# Altium footprint library Mechanicals.PcbLib: 10 footprints
Each footprint in its own frame and in the unit in brackets; x right, y up, seen from the top. Pads: shape width x height; smd on the part's side, far side on the other; paste and mask are expansions set on the pad; w line width, h text height; cw(c..) or ccw(c..) is an arc to the next point about the centre after c.
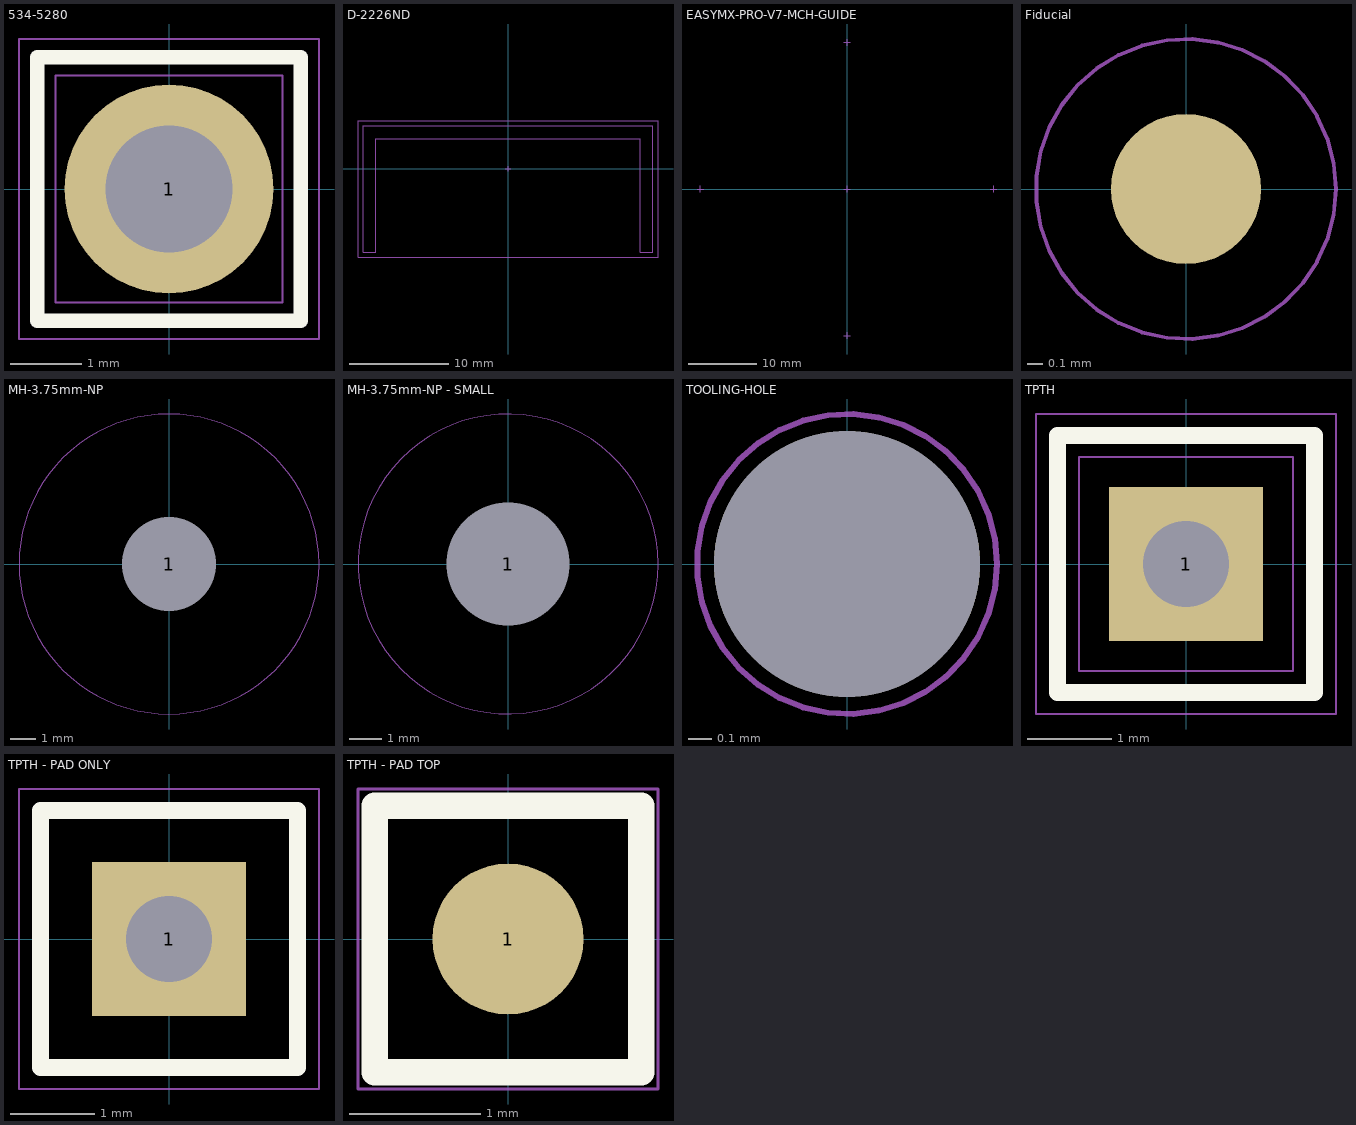
[diagram p0: the footprints below, top view; thin cyan lines are the x and y axes]

## 534-5280 [mil]
pads (1):
  round 115 hole 70: 1(0,0)
Top Overlay:
  lines w7.87: -72.5,-72.5 72.5,-72.5 72.5,72.5 -72.5,72.5 -72.5,-72.5
Top Courtyard (Mech4):
  lines w1: -82.5,-82.5 -82.5,82.5 82.5,82.5 82.5,-82.5 -82.5,-82.5
Top Assembly:
  lines w1: -5,0 5,0 ; 0,-5 0,5 ; -62.5,-62.5 62.5,-62.5 62.5,62.5 -62.5,62.5 -62.5,-62.5
3D body "keystone-PN5280.STEP": height 320.5, standoff -124.5, extent -62.5,-62.38 62.5,62.38

## D-2226ND [mm]
Top Courtyard (Mech4):
  lines w0.025: -15.113,-8.89 15.113,-8.89 15.113,4.826 -15.113,4.826 -15.113,-8.89
Top Assembly:
  lines w0.025: -0.254,0 0.254,0 ; 0,-0.254 0,0.254 ; -14.605,-8.382 -13.335,-8.382 -13.335,3.048 13.335,3.048 13.335,-8.382 14.605,-8.382 14.605,4.318 -14.605,4.318 -14.605,-8.382
3D body: height 27, standoff 0, extent -14.605,-8.382 14.605,4.318

## EASYMX-PRO-V7-MCH-GUIDE [mm]
Top Assembly:
  lines w0.025: -22.098,0 -21.082,0 ; -21.59,-0.508 -21.59,0.508 ; -0.508,-21.59 0.508,-21.59 ; -0.508,0 0.508,0 ; -0.508,21.59 0.508,21.59 ; 0,-22.098 0,-21.082 ; 0,-0.508 0,0.508 ; 0,21.082 0,22.098 ; 21.082,0 22.098,0 ; 21.59,-0.508 21.59,0.508
  text "4" at 1.397,20.828 h1.52
  text "3" at 22.987,-0.762 h1.52
  text "2" at 1.397,-22.352 h1.52
  text "1" at -19.939,-0.762 h1.52

## Fiducial [mm]
pads (1):
  round 1 smd mask+0.5: ""(0,0)
Top Courtyard (Mech4):
  circle w0.025: c0,0 r1

## MH-3.75mm-NP [mm]
pads (1):
  round 3 hole 3.75 unplated: 1(0,0)
Top Courtyard (Mech4):
  circle w0.025: c0,0 r5.969

## MH-3.75mm-NP - SMALL [mm]
pads (1):
  round 3 hole 3.75 unplated: 1(0,0)
Top Courtyard (Mech4):
  circle w0.025: c0,0 r4.572

## TOOLING-HOLE [mm]
pads (1):
  round 1.152 hole 1.152 unplated mask+0.074: ""(0,0)
Top Courtyard (Mech4):
  circle w0.025: c0,0 r0.65

## TPTH [mil]
pads (1):
  rect 72x72 hole 40: 1(0,0)
Top Overlay:
  lines w7.87: -60,-60 -60,60 60,60 60,-60 -60,-60
Top Courtyard (Mech4):
  lines w1: -70,-70 70,-70 70,70 -70,70 -70,-70
Top Assembly:
  lines w1: -5,0 5,0 ; 0,-5 0,5 ; -50,-50 50,-50 50,50 -50,50 -50,-50
3D body "User Library-Header Vertical 2_54mm Pitch2-1.step": height 237.8, standoff -111.81, extent -50,-50 50,50

## TPTH - PAD ONLY [mil]
pads (1):
  rect 72x72 hole 40: 1(0,0)
Top Overlay:
  lines w7.87: -60,-60 60,-60 60,60 -60,60 -60,-60
Top Courtyard (Mech4):
  lines w1: -70,-70 -70,70 70,70 70,-70 -70,-70

## TPTH - PAD TOP [mm]
pads (1):
  round 1.15 smd: 1(0,0)
Top Overlay:
  lines w0.2: -1.016,-1.016 -1.016,1.016 1.016,1.016 1.016,-1.016 -1.016,-1.016
Top Courtyard (Mech4):
  lines w0.025: -1.143,-1.143 1.143,-1.143 1.143,1.143 -1.143,1.143 -1.143,-1.143